# Altium schematic symbol library IRLR2705PBF.SchLib: 1 symbol
Pins are listed as number, name and electrical type; pins without a type are passive.

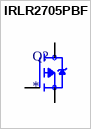
[diagram p0: symbol IRLR2705PBF]

## IRLR2705PBF
designator Q?
MF: {'manufacturer': u'Infineon Technologies'}; MP: IRLR2705PBF; Package: None; Price: None; Value: *; Availability: Unavailable
footprint TO229P990X239-4N
pins: 1 G, 3 S, 4 D